# Altium footprint library PCB_DisplayGas.PcbLib: 8 footprints
Each footprint in its own frame and in the unit in brackets; x right, y up, seen from the top. Pads: shape width x height; smd on the part's side, far side on the other; paste and mask are expansions set on the pad; w line width, h text height; cw(c..) or ccw(c..) is an arc to the next point about the centre after c.
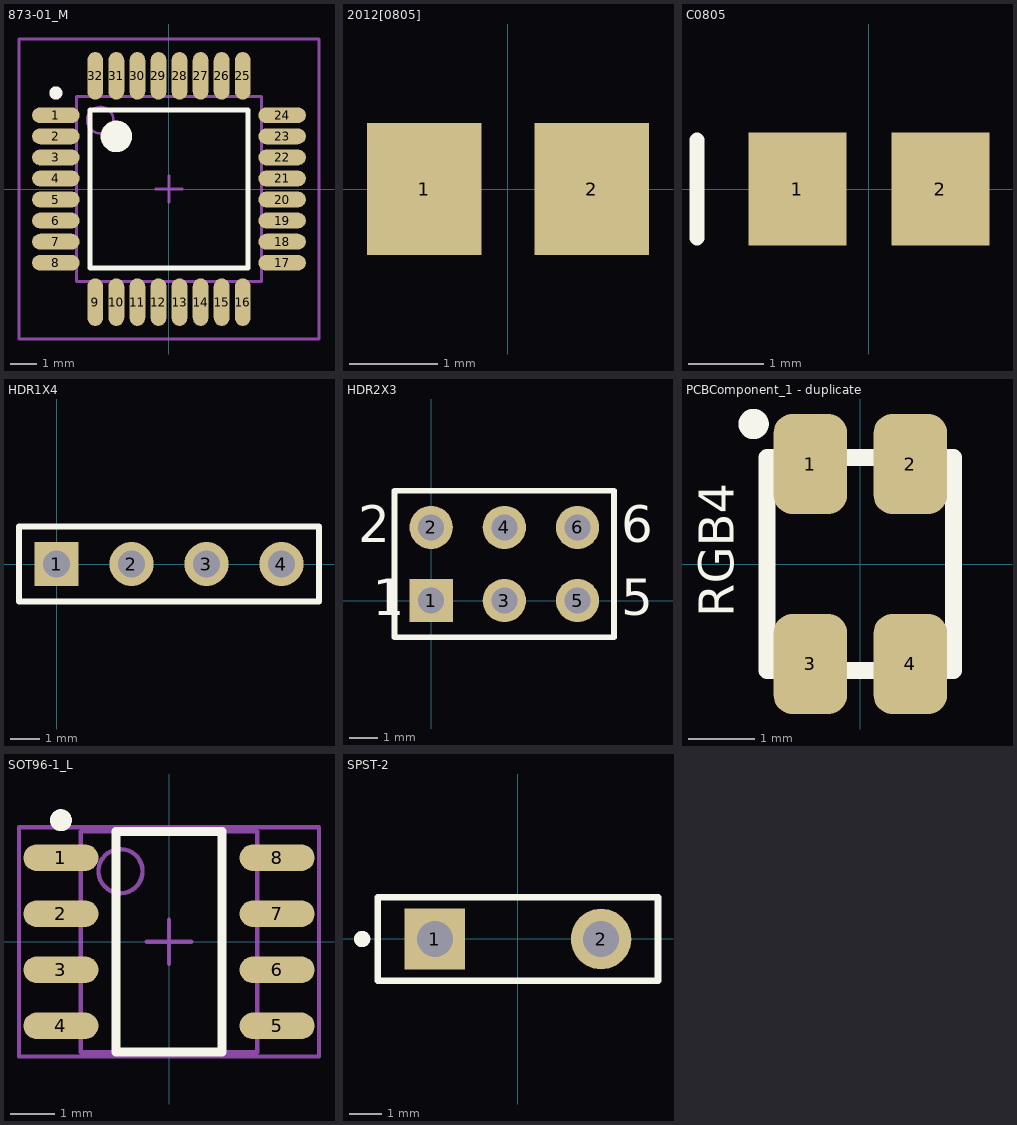
[diagram p0: the footprints below, top view; thin cyan lines are the x and y axes]

## 873-01_M [mm]
pads (32):
  oval 1.8x0.6 smd: 1(-4.3,2.8) 2(-4.3,2) 3(-4.3,1.2) 4(-4.3,0.4) 5(-4.3,-0.4) 6(-4.3,-1.2) 7(-4.3,-2) 8(-4.3,-2.8) 17(4.3,-2.8) 18(4.3,-2) 19(4.3,-1.2) 20(4.3,-0.4) 21(4.3,0.4) 22(4.3,1.2) 23(4.3,2) 24(4.3,2.8)
  oval 0.6x1.8 smd: 9(-2.8,-4.3) 10(-2,-4.3) 11(-1.2,-4.3) 12(-0.4,-4.3) 13(0.4,-4.3) 14(1.2,-4.3) 15(2,-4.3) 16(2.8,-4.3) 25(2.8,4.3) 26(2,4.3) 27(1.2,4.3) 28(0.4,4.3) 29(-0.4,4.3) 30(-1.2,4.3) 31(-2,4.3) 32(-2.8,4.3)
Top Overlay:
  circle w0.6: c-2,2 r0.3
  circle w0.25: c-4.3,3.65 r0.125
  lines w0.2: -3,-3 3,-3 3,3 -3,3 -3,-3
Mechanical 13:
  circle w0.1: c-2.615,2.615 r0.5
  lines w0.1: -3.515,-3.515 3.515,-3.515 3.515,3.515 -3.515,3.515 -3.515,-3.515
Mechanical 15:
  lines w0.1: -0.5,0 0.5,0 ; 0,-0.5 0,0.5 ; -5.7,-5.7 5.7,-5.7 5.7,5.7 -5.7,5.7 -5.7,-5.7
3D body: height 1.6, standoff 0, extent -3.515,-3.515 3.515,3.515

## 2012[0805] [mm]
pads (2):
  rect 1.3x1.5 smd: 1(-0.95,0) 2(0.95,0)

## C0805 [mm]
pads (2):
  rect 1.3x1.5 smd: 1(-0.95,0) 2(0.95,0)
Top Overlay:
  lines w0.2: -2.281,-0.65 -2.281,0.65

## HDR1X4 [mm]
pads (4):
  rect 1.5x1.5 hole 0.9: 1(0,0)
  round 1.5 hole 0.9: 2(2.54,0) 3(5.08,0) 4(7.62,0)
Top Overlay:
  lines w0.2: -1.27,-1.27 -1.27,1.27 8.89,1.27 8.89,-1.27 -1.27,-1.27

## HDR2X3 [mm]
pads (6):
  rect 1.5x1.5 hole 0.9: 1(0,0)
  round 1.5 hole 0.9: 2(0,2.54) 3(2.54,0) 4(2.54,2.54) 5(5.08,0) 6(5.08,2.54)
Top Overlay:
  lines w0.2: 1.482,-1.27 6.35,-1.27 ; 6.35,-1.27 6.35,3.81 -1.27,3.81 -1.27,-1.27 6.35,-1.27
  text "6" at 6.604,2.032 h1.27
  text "5" at 6.604,-0.508 h1.27
  text "2" at -2.54,2.032 h1.27
  text "1" at -2.032,-0.508 h1.27

## PCBComponent_1 - duplicate [mm]
pads (4):
  rrect50% 1.1x1.5 smd: 1(-0.75,1.5) 2(0.75,1.5) 3(-0.75,-1.5) 4(0.75,-1.5)
Top Overlay:
  circle w0.254: c-1.6,2.1 r0.1
  lines w0.254: -1.4,-1.6 1.4,-1.6 1.4,0 1.4,1.6 -1.4,1.6 -1.4,-1.6
  text "RGB4" at -1.9,-0.8 h0.52

## SOT96-1_L [mm]
pads (8):
  oval 1.7x0.6 smd: 1(-2.45,1.905) 2(-2.45,0.635) 3(-2.45,-0.635) 4(-2.45,-1.905) 5(2.45,-1.905) 6(2.45,-0.635) 7(2.45,0.635) 8(2.45,1.905)
Top Overlay:
  circle w0.25: c-2.45,2.755 r0.125
  lines w0.2: -1.2,-2.5 -1.2,2.5 1.2,2.5 1.2,-2.5 -1.2,-2.5
Mechanical 13:
  circle w0.1: c-1.1,1.6 r0.5
  lines w0.1: -2,-2.5 -2,2.5 2,2.5 2,-2.5 -2,-2.5
Mechanical 15:
  lines w0.1: -0.5,0 0.5,0 ; 0,-0.5 0,0.5 ; -3.4,-2.6 -3.4,2.6 3.4,2.6 3.4,-2.6 -3.4,-2.6
3D body: height 1.75, standoff 0, extent -2,-2.5 2,2.5

## SPST-2 [mm]
pads (2):
  rect 1.85x1.85 hole 1.1: 1(-2.54,0)
  round 1.85 hole 1.1: 2(2.54,0)
Top Overlay:
  circle w0.25: c-4.761,-0.001 r0.125
  lines w0.2: -4.28,-1.27 4.28,-1.27 4.28,1.27 -4.28,1.27 -4.28,-1.27